# Altium schematic symbol library SCH - EEPROM - M24xxx.SCHLIB: 1 symbol
Pins are listed as number, name and electrical type; pins without a type are passive.

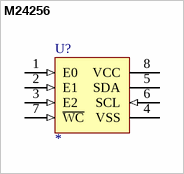
[diagram p0: symbol M24256]

## M24256
designator U?
pins: 1 E0 (in), 2 E1 (in), 3 E2 (in), 4 VSS (power), 5 SDA (oc), 6 SCL (in), 7 ~{WC} (in), 8 VCC (power)